# EAGLE library part SDCARD (library reprap)
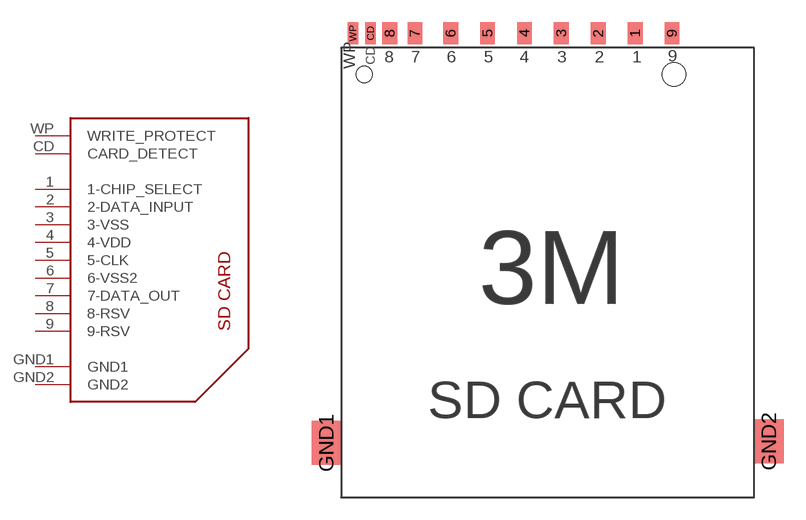
[diagram p8: symbol with the pads of 3M-SDCARD; footprint 3M-SDCARD]

Designator prefix -

## SDCARD  [3M-SDCARD]
1  1-CHIP_SELECT
2  2-DATA_INPUT
3  3-VSS
4  4-VDD
5  5-CLK
6  6-VSS2
7  7-DATA_OUT
8  8-RSV
9  9-RSV
CD  CARD_DETECT
GND1  GND1
GND2  GND2
WP  WRITE_PROTECT

## Footprint 3M-SDCARD (pad centres in mm)
smd 1 x 1.5: 1 5.93,16.5; 2 3.43,16.5; 3 0.93,16.5; 4 -1.57,16.5; 5 -4.07,16.5; 6 -6.57,16.5; 7 -9,16.5; 8 -10.7,16.5; 9 8.43,16.5
smd 0.7 x 1.5: CD -12,16.5; WP -13.2,16.5
smd 2 x 3: GND1 -15,-11.3; GND2 15,-11.2
hole 1.1 at -12.427,13.705
hole 1.6 at 8.567,13.708